# Altium footprint library ESP32_FOOT.PcbLib: 30 footprints (part 1 of 2)
Each footprint in its own frame and in the unit in brackets; x right, y up, seen from the top. Pads: shape width x height; smd on the part's side, far side on the other; paste and mask are expansions set on the pad; w line width, h text height; cw(c..) or ccw(c..) is an arc to the next point about the centre after c.
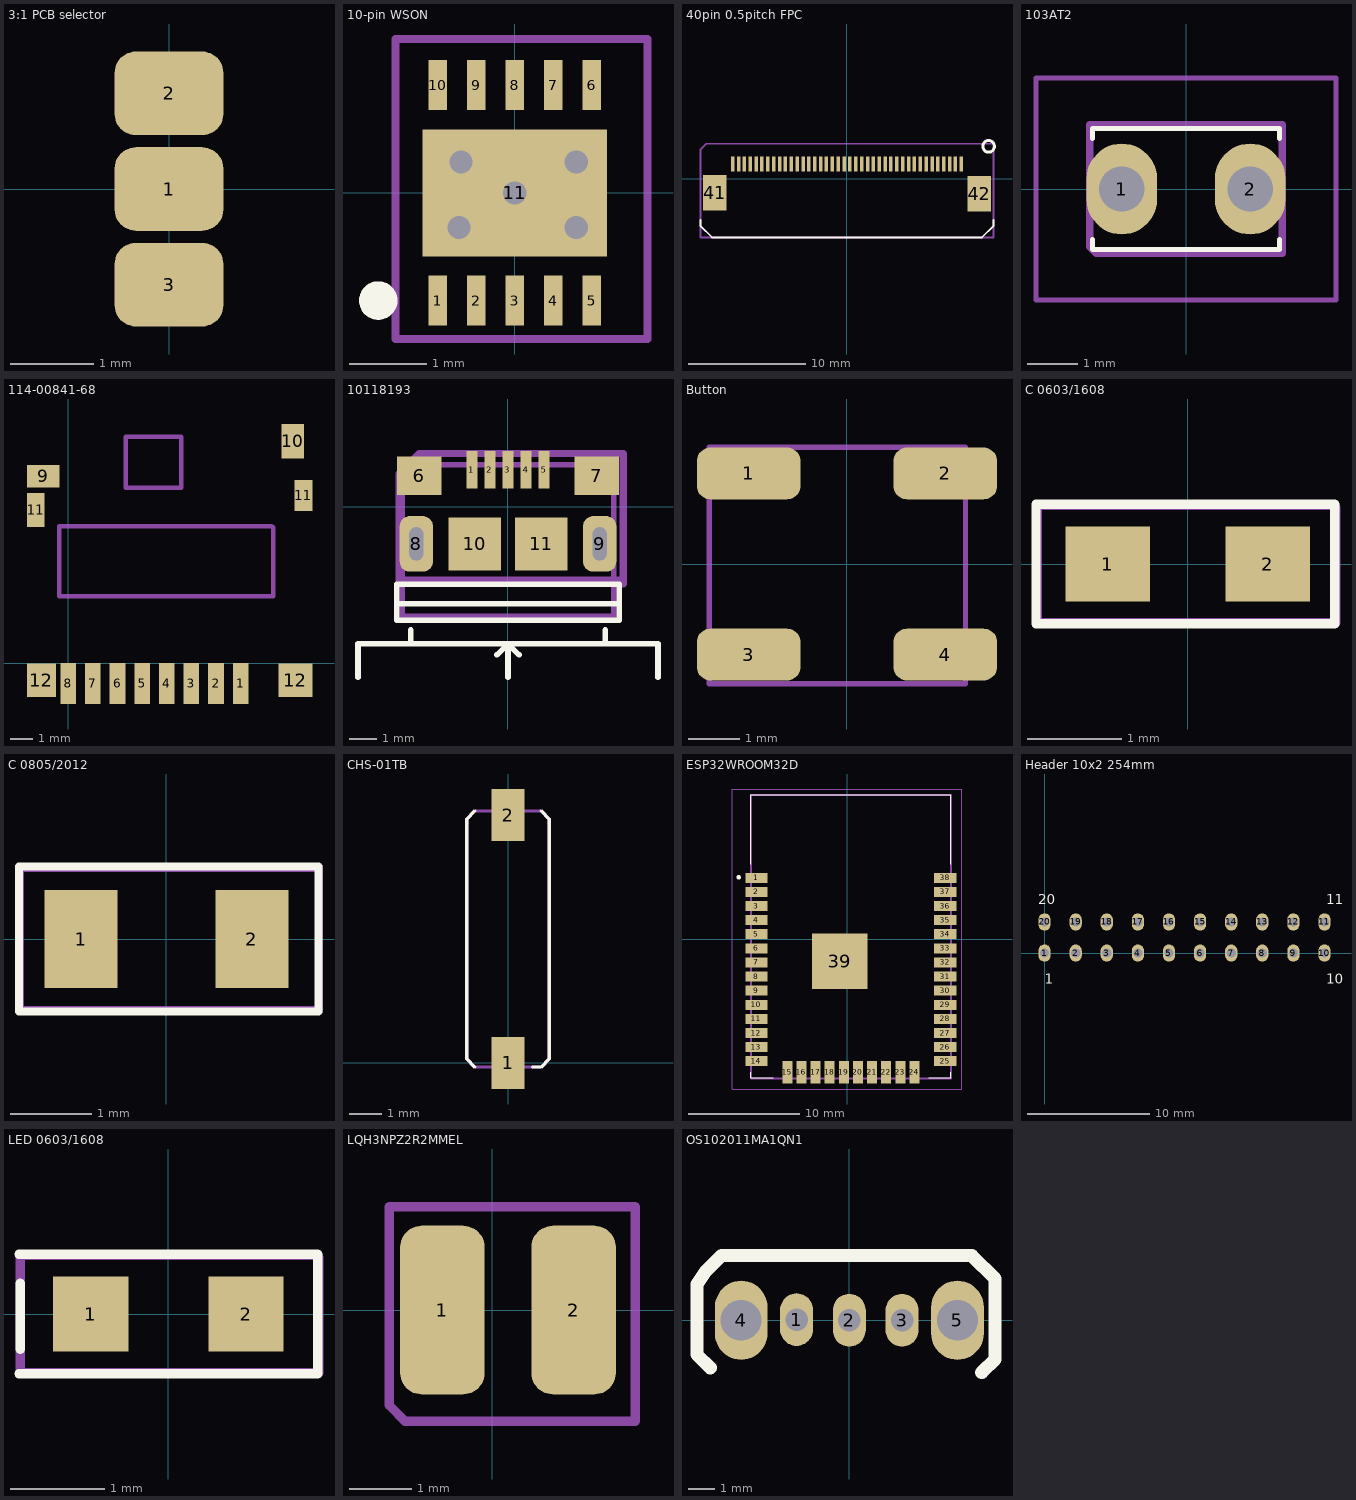
[diagram p0: the footprints below, top view; thin cyan lines are the x and y axes]

## 3:1 PCB selector [mm]
pads (3):
  rrect50% 1.3x1 smd: 1(0,0) 2(0,1.143) 3(0,-1.143)

## 10-pin WSON [mm] "8 PIN POWER PAD TEXAS"
height 1.1
pads (11):
  rect 0.24x0.65 smd: 1(-1,-1.4) 2(-0.5,-1.4) 3(0,-1.4) 4(0.5,-1.4) 5(1,-1.4) 6(1,1.4) 7(0.5,1.4) 8(0,1.4) 9(-0.5,1.4) 10(-1,1.4)
  rect 2.4x1.65 smd: 11(0,0)
via -0.725,-0.45 diameter 0.5 hole 0.3
via -0.7,0.4 diameter 0.5 hole 0.3
via 0.8,0.4 diameter 0.5 hole 0.3
via 0.8,-0.45 diameter 0.5 hole 0.3
via 0,0 diameter 0.5 hole 0.3
Top Overlay:
  circle w0.25: c-1.775,-1.4 r0.125
Mechanical 29:
  lines w0.1: -1.549,-1.9 1.725,-1.9 1.725,2 -1.549,2 -1.549,-1.9
  text ".Designator" at -0.797,0.321 h1
3D body "3x310WSON.step": height 0.7, standoff 0.01, extent -1.5,-1.505 1.5,1.505

## 40pin 0.5pitch FPC [mm]
pads (42):
  rect 0.3x1.25 smd: 1(9.75,1.27) 2(9.25,1.27) 3(8.75,1.27) 4(8.25,1.27) 5(7.75,1.27) 6(7.25,1.27) 7(6.75,1.27) 8(6.25,1.27) 9(5.75,1.27) 10(5.25,1.27) 11(4.75,1.27) 12(4.25,1.27) 13(3.75,1.27) 14(3.25,1.27) 15(2.75,1.27) 16(2.25,1.27) 17(1.75,1.27) 18(1.25,1.27) 19(0.75,1.27) 20(0.25,1.27) 21(-0.25,1.27) 22(-0.75,1.27) 23(-1.25,1.27) 24(-1.75,1.27) 25(-2.25,1.27) 26(-2.75,1.27) 27(-3.25,1.27) 28(-3.75,1.27) 29(-4.25,1.27) 30(-4.75,1.27) 31(-5.25,1.27) 32(-5.75,1.27) 33(-6.25,1.27) 34(-6.75,1.27) 35(-7.25,1.27) 36(-7.75,1.27) 37(-8.25,1.27) 38(-8.75,1.27) 39(-9.25,1.27) 40(-9.75,1.27)
  rect 2x3 smd: 41(-11.29,-1.18) 42(11.29,-1.27)
Top Overlay:
  circle w0.254: c12.075,2.775 r0.5
  lines w0.15: -12.5,-3.5 -12.5,-4 -11.5,-5 11.5,-5 12.5,-4 12.5,-3.5
Mechanical 29:
  lines w0.15: -12.5,-5 12.5,-5 12.5,3 -12,3 -12.5,2.5 -12.5,-1 -12.5,-5
  text ".Designator" at -5.5,-2 h0.8
3D body "c-4-1734592-0-c-3d.stp": height 2.1, standoff 0.05, extent -12.715,-3.96 12.715,1.15

## 103AT2 [mm]
pads (2):
  oval 1.4x1.8 hole 0.9: 1(-1.27,0) 2(1.27,0)
Top Overlay:
  lines w0.1: -1.85,-1 -1.85,-1.2 1.85,-1.2 1.85,-1 ; -1.85,1 -1.85,1.2 1.85,1.2 1.85,1
Mechanical 20:
  lines w0.1: -2.97,-2.2 2.97,-2.2 2.97,2.2 -2.97,2.2 -2.97,-2.2
Mechanical 29:
  lines w0.15: -1.905,-1.143 -1.905,1.27 1.905,1.27 1.905,-1.27 -1.778,-1.27 -1.905,-1.143
  text ".Designator" at -1.27,0 h0.8
3D body "Semitec103AT-2.stp": height 8, standoff -5, extent -1.85,-1.2 1.85,1.2

## 114-00841-68 [mm] "SD Connector"
pads (14):
  rect 0.7x1.85 smd: 1(7.7,-0.9) 2(6.6,-0.9) 3(5.5,-0.9) 4(4.4,-0.9) 5(3.3,-0.9) 6(2.2,-0.9) 7(1.1,-0.9) 8(0,-0.9)
  rect 1.45x1 smd: 9(-1.125,8.35)
  rect 1x1.55 smd: 10(10.025,9.925)
  rect 0.8x1.5 smd: 11(-1.45,6.85)
  rect 0.8x1.4 smd: 11(10.5,7.5)
  rect 1.3x1.5 smd: 12(-1.2,-0.75)
  rect 1.5x1.5 smd: 12(10.15,-0.75)
Mechanical 15:
  lines w0.2: -0.4,3 9.15,3 9.15,6.075 9.1,6.125 -0.4,6.125 -0.4,3 ; 2.575,7.85 2.575,10.125 5.05,10.125 5.05,7.85 2.575,7.85
3D body "114-00841-68.STEP": height 1.61, standoff 0.01, extent -1.425,-1.45 10.575,10.15

## 10118193 [mm]
pads (11):
  rect 0.4x1.35 smd mask+0.05: 1(-1.3,1.338) 2(-0.65,1.338) 3(0,1.338) 4(0.65,1.338) 5(1.3,1.338)
  rect 1.6x1.4 smd: 6(-3.2,1.113) 7(3.2,1.113)
  rrect60% 1.2x2 hole 0.5 slot 1.2 at 90 deg: 8(-3.3,-1.338) 9(3.3,-1.338)
  rect 1.9x1.9 smd: 10(-1.2,-1.338) 11(1.2,-1.338)
Top Overlay:
  lines w0.2: -5.4,-6.137 -5.4,-4.937 5.4,-4.937 5.4,-6.137 ; -4,-3.488 4,-3.488 ; -3.5,-4.937 -3.5,-4.437 ; -0.4,-5.337 0,-4.937 ; 0,-6.137 0,-4.937 ; 0.4,-5.337 0,-4.937 ; 3.5,-4.937 3.5,-4.437 ; -4,-4.088 -4,-2.788 4,-2.788 4,-4.088 -4,-4.088
Mechanical 16:
  lines w0.2: -3.8,-3.938 3.8,-3.938 3.8,1.512 -3.8,1.512 -3.8,-3.938
Mechanical 29:
  lines w0.254: -3.925,-2.638 -3.925,1.187 -3.2,1.913 4.15,1.913 4.15,-2.788 4,-2.638 -3.925,-2.638
  text ".Designator" at 0.6,-2.538 h1.52
3D body "10118193.step": height 2.85, standoff -0.75, extent -3.929,-4.098 3.928,1.563

## Button [mm]
pads (4):
  rrect50% 2x1 smd: 1(-1.9,1.75) 2(1.9,1.75) 3(-1.9,-1.75) 4(1.9,-1.75)
Mechanical 29:
  lines w0.1: -2.662,-2.314 -2.662,2.258 2.291,2.258 2.291,-2.314 -2.662,-2.314
  text ".Designator" at -2.154,-0.409 h1.52
3D body "TL3315NFxxxQ.stp": height 0.6, standoff 0, extent -2.37,-2.278 2.38,2.222

## C 0603/1608 [mm]
pads (2):
  rect 0.9x0.8 smd: 1(-0.85,0) 2(0.85,0)
Top Overlay:
  lines w0.1: -1.612,-0.635 1.563,-0.635 1.563,0.635 -1.612,0.635 -1.612,-0.635
Mechanical 29:
  lines w0.1: -1.6,-0.625 1.575,-0.625 1.575,0.6 1.55,0.625 -1.6,0.625 -1.6,-0.625
  text ".Designator" at -1.4,-0.4 h0.8
3D body: height 0.64, standoff 0, extent 0.85,-0.4 1.3,0.4
3D body: height 0.64, standoff 0, extent -1.3,-0.4 -0.85,0.4
3D body: height 0.64, standoff 0, extent -0.85,-0.4 0.85,0.4

## C 0805/2012 [mm]
pads (2):
  rect 0.9x1.2 smd: 1(-1.05,0) 2(1.05,0)
Top Overlay:
  lines w0.1: -1.812,-0.889 1.871,-0.889 1.871,0.889 -1.812,0.889 -1.812,-0.889
Mechanical 29:
  lines w0.1: -1.8,-0.875 1.875,-0.875 1.875,0.875 -1.775,0.875 -1.8,0.85 -1.8,-0.875
  text ".Designator" at -1.675,-0.55 h1
3D body: height 0.64, standoff 0, extent -1.05,-0.6 1.1,0.6
3D body: height 0.64, standoff 0, extent -1.5,-0.6 -1.05,0.6
3D body: height 0.64, standoff 0, extent 1.1,-0.6 1.5,0.6

## CHS-01TB [mm]
pads (2):
  rect 1x1.6 smd: 1(0,0) 2(0,7.62)
Top Overlay:
  lines w0.1: -1.016,-0.127 -1.27,0.127 -1.27,7.493 -1.016,7.747 ; 0.762,-0.127 1.016,-0.127 1.27,0.127 1.27,7.493 1.016,7.747
Mechanical 29:
  lines w0.1: -1.27,0.127 -1.27,7.493 -1.016,7.747 1.016,7.747 1.27,7.493 1.27,0.127 1.016,-0.127 -1.016,-0.127 -1.27,0.127
  text ".Designator" at 0.254,0.635 h1
3D body "CHS-01TB.stp": height 2.42, standoff -0.1, extent -1.25,-0.19 1.25,7.81

## ESP32WROOM32D [mm]
pads (39):
  rect 2x0.9 smd: 1(-8.15,5.51) 2(-8.15,4.24) 3(-8.15,2.97) 4(-8.15,1.7) 5(-8.15,0.43) 6(-8.15,-0.84) 7(-8.15,-2.11) 8(-8.15,-3.38) 9(-8.15,-4.65) 10(-8.15,-5.92) 11(-8.15,-7.19) 12(-8.15,-8.46) 13(-8.15,-9.73) 14(-8.15,-11) 25(8.85,-11) 26(8.85,-9.73) 27(8.85,-8.46) 28(8.85,-7.19) 29(8.85,-5.92) 30(8.85,-4.65) 31(8.85,-3.38) 32(8.85,-2.11) 33(8.85,-0.84) 34(8.85,0.43) 35(8.85,1.7) 36(8.85,2.97) 37(8.85,4.24) 38(8.85,5.51)
  rect 0.9x2 smd: 15(-5.365,-12) 16(-4.095,-12) 17(-2.825,-12) 18(-1.555,-12) 19(-0.285,-12) 20(0.985,-12) 21(2.255,-12) 22(3.525,-12) 23(4.795,-12) 24(6.065,-12)
  rrect0% 5x5 smd: 39(-0.65,-1.99)
Top Overlay:
  lines w0.1: -8.65,-12 -8.65,-12.5 -6.65,-12.5 ; -8.65,6.75 -8.65,13 9.35,13 9.35,6.75 ; 7.35,-12.5 9.35,-12.5 9.35,-12
  lines w0.2: -9.75,5.45 ccw(c-9.75,5.55) -9.75,5.65 ccw(c-9.75,5.55) -9.75,5.45
Mechanical 20:
  lines w0.1: -10.35,-13.5 10.35,-13.5 10.35,13.5 -10.35,13.5 -10.35,-13.5
Mechanical 29:
  lines w0.2: -8.636,-12.546 -8.636,12.954 9.364,12.954 9.364,-12.546 -8.636,-12.546
  text ".Designator" at -2.54,2.413 h0.8
3D body "esp-wroom-32.step": height 3, standoff -0.04, extent -8.671,-12.486 9.399,13.054

## Header 10x2 254mm [mm]
pads (20):
  oval 1x1.4 hole 0.75: 1(0,0) 2(2.54,0) 3(5.08,0) 4(7.62,0) 5(10.16,0) 6(12.7,0) 7(15.24,0) 8(17.78,0) 9(20.32,0) 10(22.86,0) 11(22.86,2.54) 12(20.32,2.54) 13(17.78,2.54) 14(15.24,2.54) 15(12.7,2.54) 16(10.16,2.54) 17(7.62,2.54) 18(5.08,2.54) 19(2.54,2.54) 20(0,2.54)
Top Overlay:
  text "1" at 0,-2.5 h0.8
  text "20" at -0.5,4 h0.8
  text "10" at 23,-2.5 h0.8
  text "11" at 23,4 h0.8
Mechanical 29:
  text ".Designator" at 6,1 h0.8
3D body "Header_Fem_1X10.step": height 8.5, standoff -3.2, extent -1.5,-1.27 24.4,1.27
3D body "Header_Fem_1X10.step": height 8.5, standoff -3.2, extent -1.5,1.23 24.4,3.77

## LED 0603/1608 [mm]
pads (2):
  rect 0.8x0.8 smd: 1(-0.825,0) 2(0.825,0)
Top Overlay:
  lines w0.1: -1.587,-0.635 1.588,-0.635 1.588,0.635 -1.587,0.635 ; -1.575,-0.375 -1.575,0.325
Mechanical 29:
  lines w0.1: -1.575,-0.625 1.6,-0.625 1.6,0.6 1.575,0.625 -1.575,0.625 -1.575,-0.625
  text ".Designator" at -1.375,-0.5 h1
3D body "LED_0603_G.STEP": height 0.6, standoff 0, extent -0.775,-0.425 0.825,0.375

## LOGO [mm]

## LQH3NPZ2R2MMEL [mm]
pads (2):
  rrect50% 1.35x2.7 smd: 1(-0.8,0) 2(1.3,0)
Mechanical 29:
  lines w0.15: -1.651,-1.524 -1.651,1.651 2.286,1.651 2.286,-1.778 -1.397,-1.778 -1.651,-1.524
  text ".Designator" at -0.8,-0.381 h0.8
3D body "Murata_LQH3NP_M0.step": height 1.4, standoff -0.01, extent -1.256,-1.5 1.764,1.5

## OS102011MA1QN1 [mm]
pads (5):
  oval 1.25x2 hole 0.85: 1(-2,0.025) 2(0,0) 3(2,0)
  oval 2x3 hole 1.55: 4(-4.1,0) 5(4.1,0)
Top Overlay:
  lines w0.5: -5.275,-1.8 -5.775,-1.3 -5.775,1.362 -5.425,1.875 -4.85,2.45 4.65,2.45 5.525,1.575 5.525,-1.475 5.025,-1.975
Mechanical 29:
  text ".Designator" at -3.875,-1.175 h1
3D body "OS102011MA1QN1.stp": height 4.4, standoff -3.2, extent -4.3,-6.2 4.3,2.2